# EAGLE library part SMARTPRJ_MYCON2_USB-MINI-B (library arduino-micro-reference-designArduino_Micro_Rev03j)
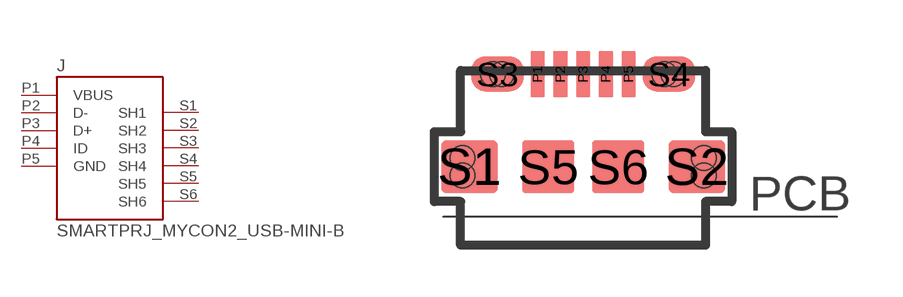
[diagram p3: symbol with the pads of SMARTPRJ_CON2_USB_MICRO_B_AT; footprint SMARTPRJ_CON2_USB_MICRO_B_AT]

Designator prefix J

## SMARTPRJ_MYCON2_USB-MINI-B  [SMARTPRJ_CON2_USB_MICRO_B_AT]
P1  VBUS  pwr
P2  D-
P3  D+
P4  ID
P5  GND  pas
S1  SH1  pas
S2  SH2  pas
S3  SH3  pas
S4  SH4  pas
S5  SH5  pas
S6  SH6  pas

## Footprint SMARTPRJ_CON2_USB_MICRO_B_AT (pad centres in mm)
smd 0.406 x 1.346: P1 -1.321,2.692; P2 -0.66,2.692; P3 0,2.692; P4 0.66,2.692; P5 1.321,2.692
smd 1.651 x 1.549: S1 -3.302,0; S2 3.302,0
smd 1.524 x 1.016: S3 -2.489,2.692; S4 2.489,2.692
smd 1.524 x 1.524: S5 -1.016,0; S6 1.016,0
hole 0.7 at -3.505,0.254
hole 0.7 at -3.505,-0.254
hole 0.7 at 3.505,0.254
hole 0.7 at 3.505,-0.254
hole 0.7 at -2.616,2.692
hole 0.7 at -2.362,2.692
hole 0.7 at 2.362,2.692
hole 0.7 at 2.616,2.692